# EAGLE library part SN74LVC244ARWPR (library EagleLibrary)
8x Buffer With 3-State Outputs
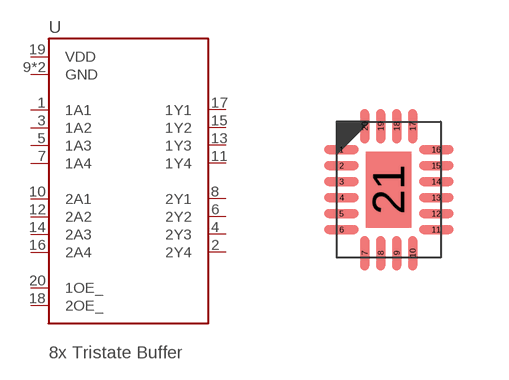
[diagram p8: symbol with the pads of SN74LVC244ARWPR; footprint SN74LVC244ARWPR]

Designator prefix U

## SN74LVC244ARWPR (MFG: Texas Instruments; PN: SN74LVC244ARWPR)  [SN74LVC244ARWPR]
1  1A1
2  2Y4
3  1A2
4  2Y3
5  1A3
6  2Y2
7  1A4
8  2Y1
9  GND
10  2A1
11  1Y4
12  2A2
13  1Y3
14  2A3
15  1Y2
16  2A4
17  1Y1
18  2OE_
19  VDD
20  1OE_
21  GND

## Footprint SN74LVC244ARWPR (pad centres in mm)
20-QFN, 0.40 mm pitch, 3.30 X 2.50 X 0.50 mm body, 1.90 X 1.14 mm thermal pad 20-pin QFN package with 0.40 mm pitch with body size 3.30 X 2.50 X 0.50 mm and thermal pad size 1.90 X 1.14 mm
smd 0.86 x 0.22: 1 -1.185,1; 2 -1.185,0.6; 3 -1.185,0.2; 4 -1.185,-0.2; 5 -1.185,-0.6; 6 -1.185,-1; 11 1.185,-1; 12 1.185,-0.6; 13 1.185,-0.2; 14 1.185,0.2; 15 1.185,0.6; 16 1.185,1
smd 0.22 x 0.86: 7 -0.6,-1.585; 8 -0.2,-1.585; 9 0.2,-1.585; 10 0.6,-1.585; 17 0.6,1.585; 18 0.2,1.585; 19 -0.2,1.585; 20 -0.6,1.585
smd 1.14 x 1.9: 21 0,0